# Altium schematic symbol library M_Driver.SchLib: 1 symbol
Pins are listed as number, name and electrical type; pins without a type are passive.

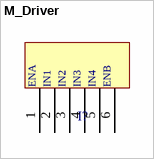
[diagram p0: symbol M_Driver]

## M_Driver
designator I?  (value not drawn)
footprint HPC_1x6
pins: 1, 2, 3, 4, 5, 6
text: ENA; IN1; IN2; IN3; IN4; ENB